# Altium schematic symbol library ELN2_LaboAntenna_Bornet_Cesalli_Lehtinen.SchLib: 1 symbol
Pins are listed as number, name and electrical type; pins without a type are passive.

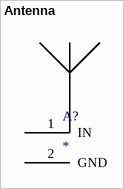
[diagram p0: symbol Antenna]

## Antenna
designator A?  (net tie, no BOM)
footprint Antenna
pins: 1 IN, 2 GND